# EAGLE library part DRAGINO_SHIELD (library Dragino_shield)
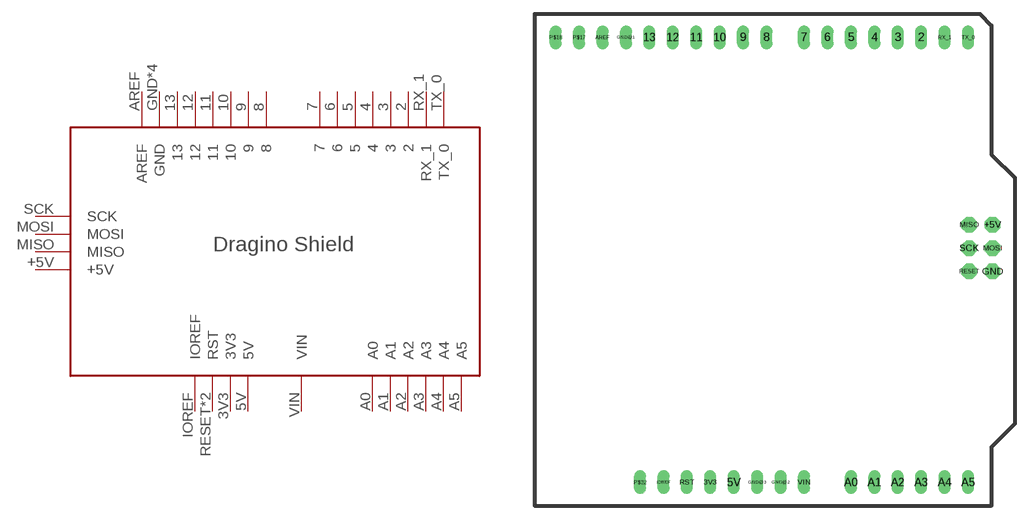
[diagram p0: symbol with the pads of DRAGINO_SHIELD; footprint DRAGINO_SHIELD]

Designator prefix -

## DRAGINO_SHIELD  [DRAGINO_SHIELD]
2  2
3  3
3V3  3V3
4  4
5  5
5V  5V
6  6
7  7
8  8
9  9
10  10
11  11
12  12
13  13
+5V  +5V
A0  A0
A1  A1
A2  A2
A3  A3
A4  A4
A5  A5
AREF  AREF
GND  GND
GND@1  GND
GND@2  GND
GND@3  GND
IOREF  IOREF
MISO  MISO
MOSI  MOSI
RESET  RST
RST  RST
RX_1  RX_1
SCK  SCK
TX_0  TX_0
VIN  VIN

## Footprint DRAGINO_SHIELD (pad centres in mm)
drill 0.8 long: 2 36.83,50.8; 3 34.29,50.8; 3V3 13.97,2.54; 4 31.75,50.8; 5 29.21,50.8; 5V 16.51,2.54; 6 26.67,50.8; 7 24.13,50.8; 8 20.066,50.8; 9 17.526,50.8; 10 14.986,50.8; 11 12.446,50.8; 12 9.906,50.8; 13 7.366,50.8; A0 29.21,2.54; A1 31.75,2.54; A2 34.29,2.54; A3 36.83,2.54; A4 39.37,2.54; A5 41.91,2.54; AREF 2.286,50.8; GND@1 4.826,50.8; GND@2 21.59,2.54; GND@3 19.05,2.54; IOREF 8.89,2.54; P$17 -0.254,50.8; P$18 -2.794,50.8; P$32 6.35,2.54; RST 11.43,2.54; RX_1 39.37,50.8; TX_0 41.91,50.8; VIN 24.13,2.54
drill 0.8 pad 1.676 octagon: +5V 44.577,30.481; GND 44.577,25.401; MISO 42.037,30.481; MOSI 44.577,27.941; RESET 42.037,25.401; SCK 42.037,27.941